# EAGLE library part ESP32-QFN_5X5 (library esp32-wroom-32)
ESP32-D2WD - has 2 MiB internal flash ESP32-S0WD - has 0 MiB internal flash (requires external SPI flash)
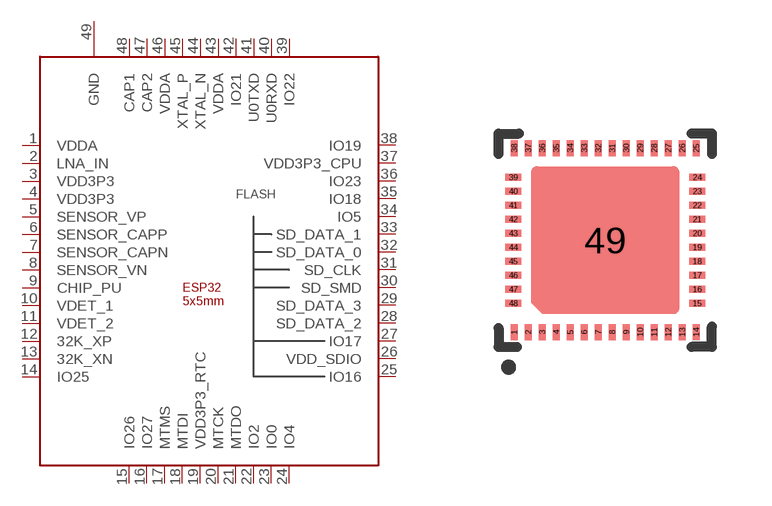
[diagram p1: symbol with the pads of ESP32-QFN48_5X5; footprint ESP32-QFN48_5X5]

Designator prefix -

## ESP32-QFN_5X5  [ESP32-QFN48_5X5]
1  VDDA  pwr
2  LNA_IN
3  VDD3P3  pwr
4  VDD3P3  pwr
5  SENSOR_VP  in
6  SENSOR_CAPP  in
7  SENSOR_CAPN  in
8  SENSOR_VN  in
9  CHIP_PU  in
10  VDET_1  in
11  VDET_2  in
12  32K_XP
13  32K_XN
14  IO25
15  IO26
16  IO27
17  MTMS
18  MTDI
19  VDD3P3_RTC  pwr
20  MTCK
21  MTDO
22  IO2
23  IO0
24  IO4
25  IO16
26  VDD_SDIO  pwr
27  IO17
28  SD_DATA_2
29  SD_DATA_3
30  SD_SMD
31  SD_CLK
32  SD_DATA_0
33  SD_DATA_1
34  IO5
35  IO18
36  IO23
37  VDD3P3_CPU  pwr
38  IO19
39  IO22
40  U0RXD
41  U0TXD
42  IO21
43  VDDA  pwr
44  XTAL_N
45  XTAL_P  in
46  VDDA  pwr
47  CAP2  in
48  CAP1  in
49  GND  pwr

## Footprint ESP32-QFN48_5X5 (pad centres in mm)
ESP-32, 5mm x 5mm QFN48. MPN ESP32-S0WD
smd 0.18 x 0.4: 1 -2.275,-2.3; 2 -1.925,-2.3; 3 -1.575,-2.3; 4 -1.225,-2.3; 5 -0.875,-2.3; 6 -0.525,-2.3; 7 -0.175,-2.3; 8 0.175,-2.3; 9 0.525,-2.3; 10 0.875,-2.3; 11 1.225,-2.3; 12 1.575,-2.3; 13 1.925,-2.3; 14 2.275,-2.3; 25 2.275,2.3; 26 1.925,2.3; 27 1.575,2.3; 28 1.225,2.3; 29 0.875,2.3; 30 0.525,2.3; 31 0.175,2.3; 32 -0.175,2.3; 33 -0.525,2.3; 34 -0.875,2.3; 35 -1.225,2.3; 36 -1.575,2.3; 37 -1.925,2.3; 38 -2.275,2.3
smd 0.4 x 0.18: 15 2.3,-1.575; 16 2.3,-1.225; 17 2.3,-0.875; 18 2.3,-0.525; 19 2.3,-0.175; 20 2.3,0.175; 21 2.3,0.525; 22 2.3,0.875; 23 2.3,1.225; 24 2.3,1.575; 39 -2.3,1.575; 40 -2.3,1.225; 41 -2.3,0.875; 42 -2.3,0.525; 43 -2.3,0.175; 44 -2.3,-0.175; 45 -2.3,-0.525; 46 -2.3,-0.875; 47 -2.3,-1.225; 48 -2.3,-1.575
smd 1 x 1: 49 0,0